# EAGLE library part LMD18201 (library lm2576)
DMOS Full-Bridge Motor Driver Handles 3A of continuous current at up to 55V. No integrated current sensing. Temp range -40 to 125 C
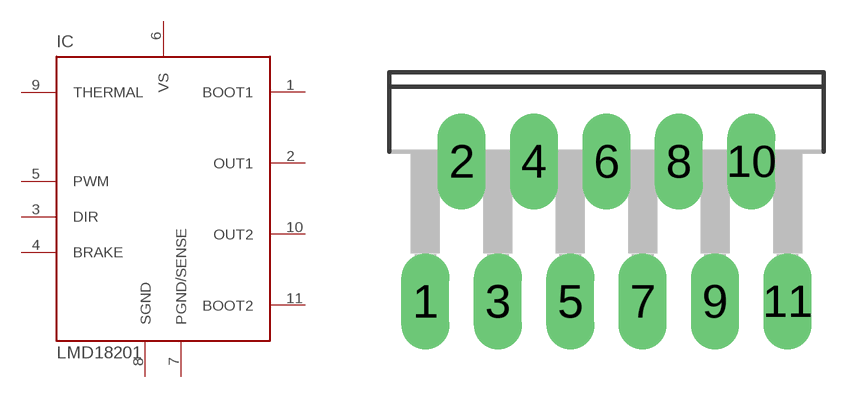
[diagram p4: symbol with the pads of TO220-11; footprint TO220-11]

Designator prefix IC

## LMD18201T  [TO220-11]
1  BOOT1  in
2  OUT1  out
3  DIR  in
4  BRAKE  in
5  PWM  in
6  VS  pwr
7  PGND/SENSE  pwr
8  SGND  pwr
9  THERMAL  out
10  OUT2  out
11  BOOT2  in

## Footprint TO220-11 (pad centres in mm)
11-pin TO220 Molded Package, standing
drill 1.118 pad 1.626 long: 1 -6.35,-8.036; 2 -5.08,-3.126; 3 -3.81,-8.036; 4 -2.54,-3.126; 5 -1.27,-8.036; 6 0,-3.126; 7 1.27,-8.036; 8 2.54,-3.126; 9 3.81,-8.036; 10 5.08,-3.126; 11 6.35,-8.036